# Altium footprint library ADV7180.PcbLib: 2 footprints
Each footprint in its own frame and in the unit in brackets; x right, y up, seen from the top. Pads: shape width x height; smd on the part's side, far side on the other; paste and mask are expansions set on the pad; w line width, h text height; cw(c..) or ccw(c..) is an arc to the next point about the centre after c.
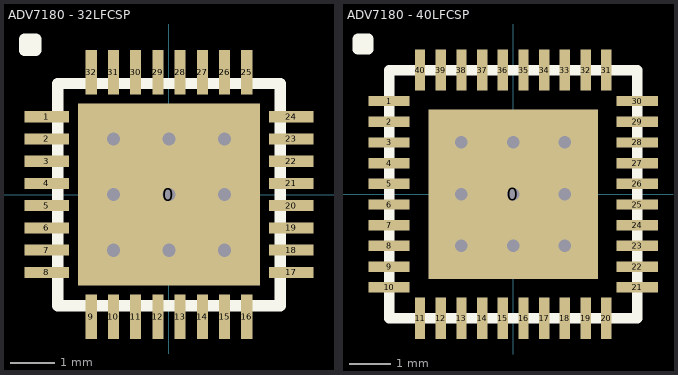
[diagram p0: the footprints below, top view; thin cyan lines are the x and y axes]

## ADV7180 - 32LFCSP [mm]
pads (33):
  rect 4.1x4.1 smd: 0(0,0)
  rect 1x0.25 smd: 1(-2.75,1.75) 2(-2.75,1.25) 3(-2.75,0.75) 4(-2.75,0.25) 5(-2.75,-0.25) 6(-2.75,-0.75) 7(-2.75,-1.25) 8(-2.75,-1.75) 17(2.75,-1.75) 18(2.75,-1.25) 19(2.75,-0.75) 20(2.75,-0.25) 21(2.75,0.25) 22(2.75,0.75) 23(2.75,1.25) 24(2.75,1.75)
  rect 0.25x1 smd: 9(-1.75,-2.75) 10(-1.25,-2.75) 11(-0.75,-2.75) 12(-0.25,-2.75) 13(0.25,-2.75) 14(0.75,-2.75) 15(1.25,-2.75) 16(1.75,-2.75) 25(1.75,2.75) 26(1.25,2.75) 27(0.75,2.75) 28(0.25,2.75) 29(-0.25,2.75) 30(-0.75,2.75) 31(-1.25,2.75) 32(-1.75,2.75)
via -1.25,1.25 diameter 0.5 hole 0.3
via -1.25,0 diameter 0.5 hole 0.3
via -1.25,-1.25 diameter 0.5 hole 0.3
via 0,-1.25 diameter 0.5 hole 0.3
via 1.25,-1.25 diameter 0.5 hole 0.3
via 1.25,0 diameter 0.5 hole 0.3
via 1.25,1.25 diameter 0.5 hole 0.3
via 0,1.25 diameter 0.5 hole 0.3
via 0,0 diameter 0.5 hole 0.3
Top Overlay:
  lines w0.254: -3.25,3.25 -3.25,3.5 -3,3.5 -3,3.25 -3.25,3.25 ; -2.5,-2.5 -2.5,2.5 2.5,2.5 2.5,-2.5 -2.5,-2.5

## ADV7180 - 40LFCSP [mm]
pads (41):
  rect 4.1x4.1 smd: 0(0,0)
  rect 1x0.25 smd: 1(-3,2.25) 2(-3,1.75) 3(-3,1.25) 4(-3,0.75) 5(-3,0.25) 6(-3,-0.25) 7(-3,-0.75) 8(-3,-1.25) 9(-3,-1.75) 10(-3,-2.25) 21(3,-2.25) 22(3,-1.75) 23(3,-1.25) 24(3,-0.75) 25(3,-0.25) 26(3,0.25) 27(3,0.75) 28(3,1.25) 29(3,1.75) 30(3,2.25)
  rect 0.25x1 smd: 11(-2.25,-3) 12(-1.75,-3) 13(-1.25,-3) 14(-0.75,-3) 15(-0.25,-3) 16(0.25,-3) 17(0.75,-3) 18(1.25,-3) 19(1.75,-3) 20(2.25,-3) 31(2.25,3) 32(1.75,3) 33(1.25,3) 34(0.75,3) 35(0.25,3) 36(-0.25,3) 37(-0.75,3) 38(-1.25,3) 39(-1.75,3) 40(-2.25,3)
via -1.25,1.25 diameter 0.5 hole 0.3
via -1.25,0 diameter 0.5 hole 0.3
via -1.25,-1.25 diameter 0.5 hole 0.3
via 0,-1.25 diameter 0.5 hole 0.3
via 1.25,-1.25 diameter 0.5 hole 0.3
via 1.25,0 diameter 0.5 hole 0.3
via 1.25,1.25 diameter 0.5 hole 0.3
via 0,1.25 diameter 0.5 hole 0.3
via 0,0 diameter 0.5 hole 0.3
Top Overlay:
  lines w0.254: -3.75,3.5 -3.75,3.75 -3.5,3.75 -3.5,3.5 -3.75,3.5 ; -3,-3 3,-3 3,3 -3,3 -3,-3